# Altium schematic symbol library TP4057.Schlib: 1 symbol
Pins are listed as number, name and electrical type; pins without a type are passive.

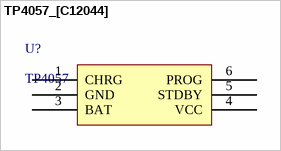
[diagram p0: symbol TP4057_[C12044]]

## TP4057_[C12044]
designator U?, comment TP4057
电池电源管理
footprint SOT-23-6
pins: 1 CHRG, 2 GND, 3 BAT, 4 VCC, 5 STDBY, 6 PROG